# EAGLE library part MB85RC1MTPNF-G-JNE1 (library MB85RC1MTPNF-G-JNE1)
Fujitsu MB85RC1MTPNF-G-JNE1 1M Bit FRAM LSI I2C Serial Interface Check prices <https://pricing.snapeda.com/parts/MB85RC1MTPNF-G-JNE1/Fujitsu/view-part?ref=eda>
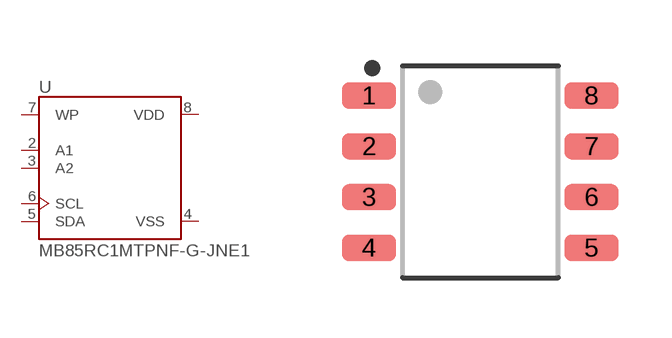
[diagram p0: symbol with the pads of SOIC127P620X175-8N; footprint SOIC127P620X175-8N]

Designator prefix U

## MB85RC1MTPNF-G-JNE1 (Availability: Bad; Description: F-RAM 1Mbit FRAM, I2C, BULK; MF: Fujitsu; MP: MB85RC1MTPNF-G-JNE1; Package: None; Price: None)  [SOIC127P620X175-8N]
2  A1
3  A2
4  VSS  pwr
5  SDA
6  SCL
7  WP  in
8  VDD  pwr

## Footprint SOIC127P620X175-8N (pad centres in mm)
smd 1.36 x 0.66: 1 -2.78,1.905; 2 -2.78,0.635; 3 -2.78,-0.635; 4 -2.78,-1.905; 5 2.78,-1.905; 6 2.78,-0.635; 7 2.78,0.635; 8 2.78,1.905